# Altium integrated library AD5543BRZ.IntLib: 1 symbol
Pins are listed as number, name and electrical type; pins without a type are passive.

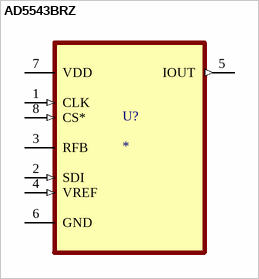
[diagram p0: symbol AD5543BRZ]

## AD5543BRZ
designator U?
16 Bit Digital to Analog Converter 1 8-SOIC; MF: Analog Devices; MP: AD5543BRZ; SnapEDA_Link: https://www.snapeda.com/parts/AD5543BRZ/Analog%20Devices%20Inc./view-part/278340/?ref=snap; Value: *; Purchase-URL: https://pricing.snapeda.com/search/part/AD5543BRZ/?ref=eda; Check_prices: https://www.snapeda.com/parts/AD5543BRZ/Analog%20Devices%20Inc./view-part/278340/?ref=eda; Availability: Good; Price: None; Package: SOIC-8 Analog Devices
footprint SOIC127P600X175-8N
pins: 1 CLK (in), 2 SDI (in), 3 RFB, 4 VREF (in), 5 IOUT (out), 6 GND, 7 VDD (power), 8 CS* (in)